# Altium footprint library Microcontroller.PcbLib: 13 footprints
Each footprint in its own frame and in the unit in brackets; x right, y up, seen from the top. Pads: shape width x height; smd on the part's side, far side on the other; paste and mask are expansions set on the pad; w line width, h text height; cw(c..) or ccw(c..) is an arc to the next point about the centre after c.
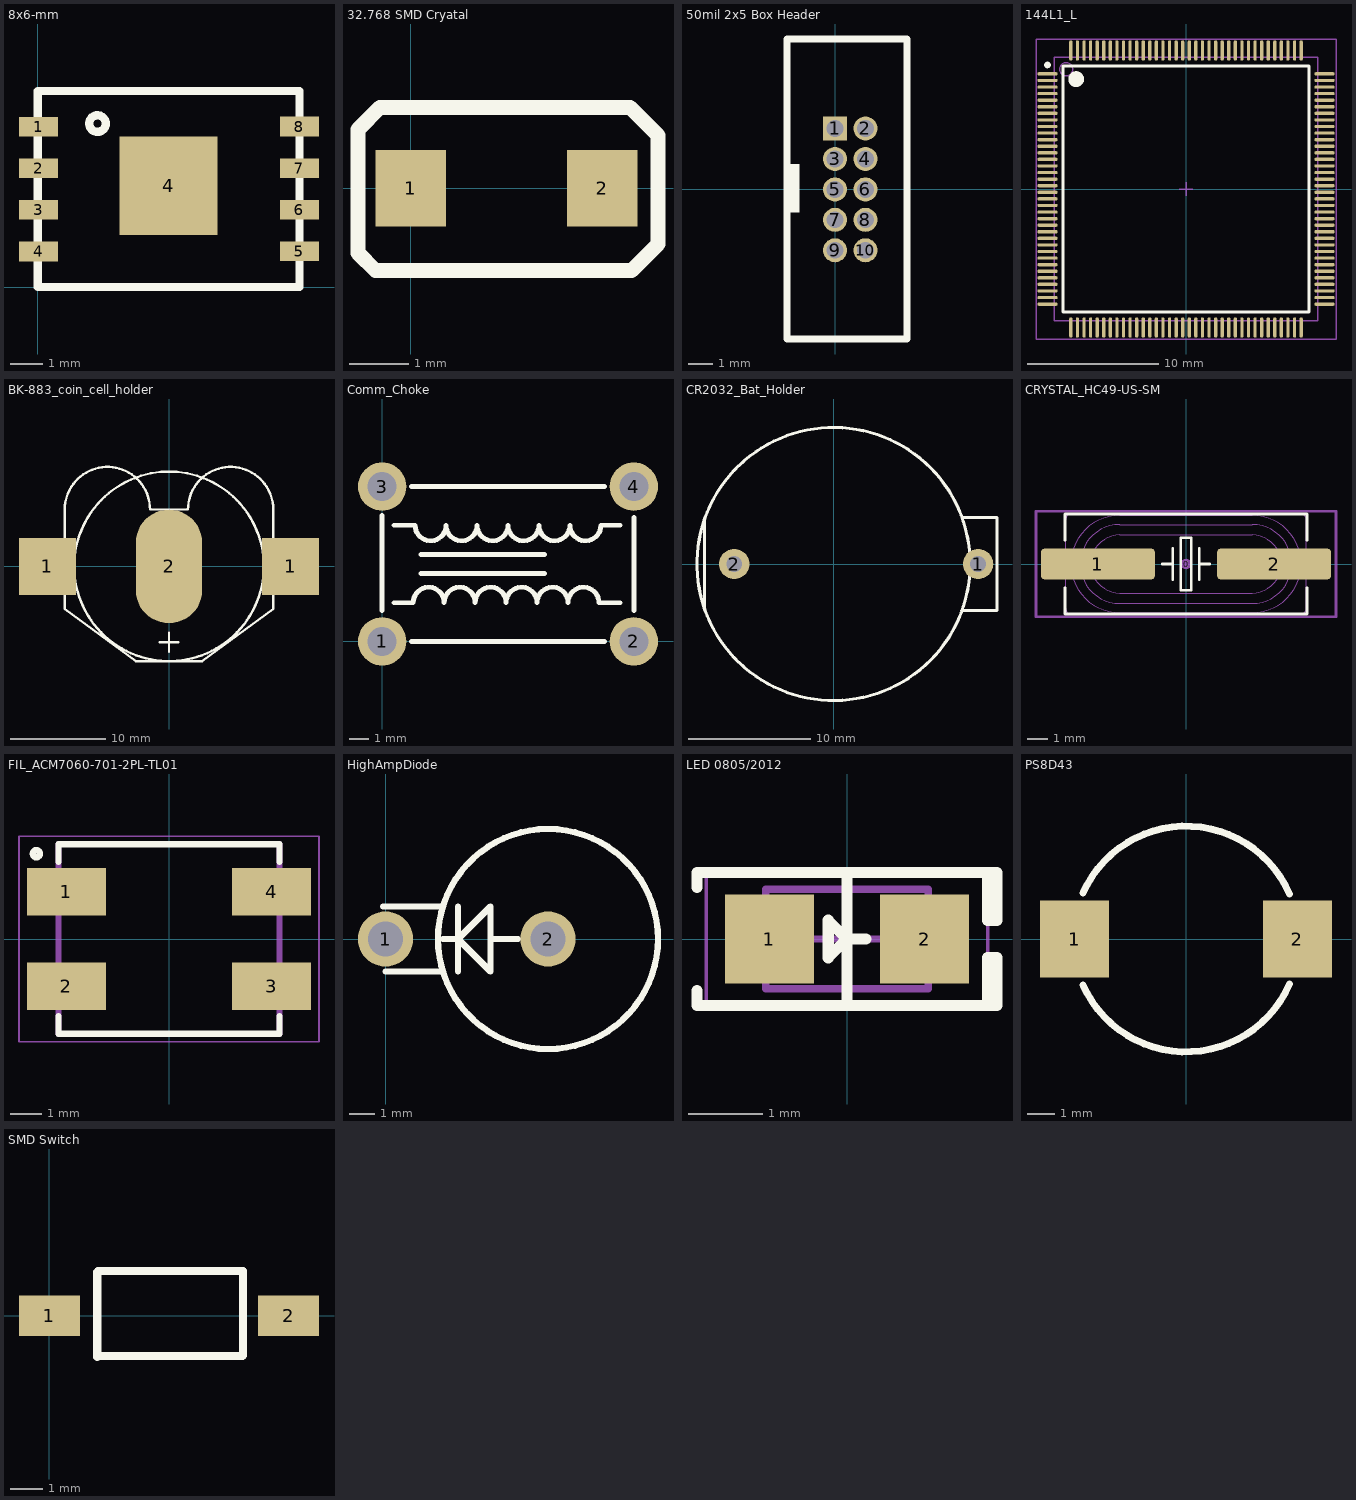
[diagram p0: the footprints below, top view; thin cyan lines are the x and y axes]

## 8x6-mm [mm]
pads (9):
  rect 1.2x0.6 smd: 1(0.025,4.9) 2(0.025,3.63) 3(0.025,2.36) 4(0.025,1.09) 5(8,1.1) 6(8,2.37) 7(8,3.64) 8(8,4.91)
  rect 3x3 smd: 4(4,3.1)
Top Overlay:
  circle w0.254: c1.825,5 r0.254
  lines w0.25: 0,3 0,4.9 ; 0,0 8,0 8,6 0,6 0,0
3D body: height 0.5, standoff 0, extent 0.2,0.2 7.8,5.8

## 32.768 SMD Cryatal [mm]
height 1.1
pads (2):
  rect 1.2x1.3 smd: 1(0,0) 2(3.25,0)
Top Overlay:
  lines w0.254: -0.9,-1.1 -0.6,-1.4 3.75,-1.4 4.2,-0.95 4.2,0.9 3.725,1.375 -0.525,1.375 -0.9,1 -0.9,-1.1
3D body: height 2, standoff 0, extent -0.5,-1.2 3.7,1.2

## 50mil 2x5 Box Header [mm]
pads (10):
  rect 1x1 hole 0.7: 1(0,2.525)
  round 1 hole 0.7: 2(1.27,2.525) 3(0,1.255) 4(1.27,1.255) 5(0,-0.015) 6(1.27,-0.015) 7(0,-1.285) 8(1.27,-1.285) 9(0,-2.555) 10(1.27,-2.555)
Top Overlay:
  region: -1.5,1.025 -2,1.025 -2,-0.975 -1.5,-0.975
  lines w0.3: -2,-6.25 -2,6.25 3,6.25 3,-6.25 -2,-6.25

## 144L1_L [mm] "144-Pin Thin Quad Flat Pack 0.5 mm Pitch, IPC High Density"
height 1.45
pads (144):
  oval 1.55x0.25 smd: 1(-10.525,8.75) 2(-10.525,8.25) 3(-10.525,7.75) 4(-10.525,7.25) 5(-10.525,6.75) 6(-10.525,6.25) 7(-10.525,5.75) 8(-10.525,5.25) 9(-10.525,4.75) 10(-10.525,4.25) 11(-10.525,3.75) 12(-10.525,3.25) 13(-10.525,2.75) 14(-10.525,2.25) 15(-10.525,1.75) 16(-10.525,1.25) 17(-10.525,0.75) 18(-10.525,0.25) 19(-10.525,-0.25) 20(-10.525,-0.75) 21(-10.525,-1.25) 22(-10.525,-1.75) 23(-10.525,-2.25) 24(-10.525,-2.75) 25(-10.525,-3.25) 26(-10.525,-3.75) 27(-10.525,-4.25) 28(-10.525,-4.75) 29(-10.525,-5.25) 30(-10.525,-5.75) 31(-10.525,-6.25) 32(-10.525,-6.75) 33(-10.525,-7.25) 34(-10.525,-7.75) 35(-10.525,-8.25) 36(-10.525,-8.75) 73(10.525,-8.75) 74(10.525,-8.25) 75(10.525,-7.75) 76(10.525,-7.25) 77(10.525,-6.75) 78(10.525,-6.25) 79(10.525,-5.75) 80(10.525,-5.25) 81(10.525,-4.75) 82(10.525,-4.25) 83(10.525,-3.75) 84(10.525,-3.25) 85(10.525,-2.75) 86(10.525,-2.25) 87(10.525,-1.75) 88(10.525,-1.25) 89(10.525,-0.75) 90(10.525,-0.25) 91(10.525,0.25) 92(10.525,0.75) 93(10.525,1.25) 94(10.525,1.75) 95(10.525,2.25) 96(10.525,2.75) 97(10.525,3.25) 98(10.525,3.75) 99(10.525,4.25) 100(10.525,4.75) 101(10.525,5.25) 102(10.525,5.75) 103(10.525,6.25) 104(10.525,6.75) 105(10.525,7.25) 106(10.525,7.75) 107(10.525,8.25) 108(10.525,8.75)
  oval 0.25x1.55 smd: 37(-8.75,-10.525) 38(-8.25,-10.525) 39(-7.75,-10.525) 40(-7.25,-10.525) 41(-6.75,-10.525) 42(-6.25,-10.525) 43(-5.75,-10.525) 44(-5.25,-10.525) 45(-4.75,-10.525) 46(-4.25,-10.525) 47(-3.75,-10.525) 48(-3.25,-10.525) 49(-2.75,-10.525) 50(-2.25,-10.525) 51(-1.75,-10.525) 52(-1.25,-10.525) 53(-0.75,-10.525) 54(-0.25,-10.525) 55(0.25,-10.525) 56(0.75,-10.525) 57(1.25,-10.525) 58(1.75,-10.525) 59(2.25,-10.525) 60(2.75,-10.525) 61(3.25,-10.525) 62(3.75,-10.525) 63(4.25,-10.525) 64(4.75,-10.525) 65(5.25,-10.525) 66(5.75,-10.525) 67(6.25,-10.525) 68(6.75,-10.525) 69(7.25,-10.525) 70(7.75,-10.525) 71(8.25,-10.525) 72(8.75,-10.525) 109(8.75,10.525) 110(8.25,10.525) 111(7.75,10.525) 112(7.25,10.525) 113(6.75,10.525) 114(6.25,10.525) 115(5.75,10.525) 116(5.25,10.525) 117(4.75,10.525) 118(4.25,10.525) 119(3.75,10.525) 120(3.25,10.525) 121(2.75,10.525) 122(2.25,10.525) 123(1.75,10.525) 124(1.25,10.525) 125(0.75,10.525) 126(0.25,10.525) 127(-0.25,10.525) 128(-0.75,10.525) 129(-1.25,10.525) 130(-1.75,10.525) 131(-2.25,10.525) 132(-2.75,10.525) 133(-3.25,10.525) 134(-3.75,10.525) 135(-4.25,10.525) 136(-4.75,10.525) 137(-5.25,10.525) 138(-5.75,10.525) 139(-6.25,10.525) 140(-6.75,10.525) 141(-7.25,10.525) 142(-7.75,10.525) 143(-8.25,10.525) 144(-8.75,10.525)
Top Overlay:
  circle w0.25: c-10.525,9.425 r0.125
  circle w0.6: c-8.35,8.35 r0.3
  lines w0.2: -9.35,-9.35 -9.35,9.35 9.35,9.35 9.35,-9.35 -9.35,-9.35
Mechanical 13:
  circle w0.1: c-9.1,9.1 r0.5
  lines w0.1: -10,-10 -10,10 10,10 10,-10 -10,-10
Mechanical 15:
  lines w0.1: -0.5,0 0.5,0 ; 0,-0.5 0,0.5 ; -11.4,-11.4 -11.4,11.4 11.4,11.4 11.4,-11.4 -11.4,-11.4
3D body "User Library-LQFP144-1.STEP": height 1.63, standoff 0.03, extent -10.998,-11.002 11.002,10.998

## BK-883_coin_cell_holder [mm]
pads (3):
  rect 6x6 smd: 1(-12.83,0) 1(12.83,0)
  oval 7x12 smd: 2(0,0)
Top Overlay:
  circle w0.254: c0,0 r10
  lines w0.254: -11,6 cw(c-6.5,6) -2,6 2,6 cw(c6.5,6) 11,6 ; -11,6.5 -11,-4.5 -3.5,-10 3.5,-10 11,-4.5 11,6.5 ; -1,-8 1,-8 ; 0,-9 0,-7
3D body: height 3, standoff 0, extent -9.8,-9.797 9.8,9.797
3D body: height 4, standoff 0, extent 2.1,1.802 10.7,10.4
3D body: height 4, standoff 0, extent -10.8,1.801 -2.2,10.399
3D body: height 0.5, standoff 0, extent 10.7,-2.8 15.5,2.8
3D body: height 0.5, standoff 0, extent -15.5,-2.8 -10.7,2.8
3D body: height 4, standoff 0, extent -10.8,-9.8 10.8,6.5

## Comm_Choke [mm]
pads (4):
  round 2.5 hole 1.5: 1(0,0) 2(13,0) 3(0,8) 4(13,8)
Top Overlay:
  lines w0.254: 0,1.6 0,6.5 ; 0.6,2 1.6,2 cw(c2.4,2) 3.2,2 cw(c4,2) 4.8,2 cw(c5.6,2) 6.4,2 cw(c7.2,2) 8,2 cw(c8.8,2) 9.6,2 cw(c10.4,2) 11.2,2 12.3,2 ; 0.6,6 1.7,6 ccw(c2.5,6) 3.3,6 ccw(c4.1,6) 4.9,6 ccw(c5.7,6) 6.5,6 ccw(c7.3,6) 8.1,6 ccw(c8.9,6) 9.7,6 ccw(c10.5,6) 11.3,6 12.3,6 ; 1.5,0 11.5,0 ; 1.5,8 11.5,8 ; 2,3.5 8.4,3.5 ; 2,4.5 8.4,4.5 ; 13,1.6 13,6.4
3D body: height 10, standoff 0, extent 0,0 13,8

## CR2032_Bat_Holder [mm]
pads (2):
  round 2.5 hole 1.3: 1(11.85,0) 2(-8.15,0)
Top Overlay:
  circle w0.254: c0,0 r11.2
  lines w0.254: -10.6,-3.7 -10.6,3.7 ; 10.5,-3.8 13.4,-3.8 13.4,3.8 10.6,3.8
3D body "User Library-CR2032_HOR_HOLD.STEP": height 8.5, standoff -4, extent -11,-11 13.5,11

## CRYSTAL_HC49-US-SM [mm] "SMD Crystal HC49/US-SM package"
height 4.3
pads (3):
  round 0.508 on Mech15: 0(0,0)
  rrect25% 5.5x1.5 smd: 1(-4.25,0) 2(4.25,0)
Top Overlay:
  lines w0.127: -5.842,-1.143 -5.842,-2.413 5.842,-2.413 5.842,-1.143 ; -5.842,1.143 -5.842,2.413 5.842,2.413 5.842,1.143 ; -1.143,0 -0.635,0 ; -0.635,-0.762 -0.635,0.762 ; 0.635,-0.762 0.635,0.762 ; 0.635,0 1.143,0 ; -0.254,-1.27 0.254,-1.27 0.254,1.27 -0.254,1.27 -0.254,-1.27
Mechanical 13:
  lines w0.05: -5.8,-0.45 -6.4,-0.45 -6.4,0.45 -5.8,0.45 ; 5.8,-0.45 6.4,-0.45 6.4,0.45 5.8,0.45 ; -5.8,-2.165 ccw(c-5.55,-2.165) -5.55,-2.415 5.55,-2.415 ccw(c5.55,-2.165) 5.8,-2.165 5.8,2.165 ccw(c5.55,2.165) 5.55,2.415 -5.55,2.415 ccw(c-5.55,2.165) -5.8,2.165 -5.8,-2.165 ; -3.2,-2.35 cw(c-3.2,0) -3.2,2.35 3.2,2.35 cw(c3.2,0) 3.2,-2.35 -3.2,-2.35 ; -3.2,-1.9 cw(c-3.2,0) -3.2,1.9 3.2,1.9 cw(c3.2,0) 3.2,-1.9 -3.2,-1.9 ; -3.2,-1.4 cw(c-3.2,0) -3.2,1.4 3.2,1.4 cw(c3.2,0) 3.2,-1.4 -3.2,-1.4
Mechanical 15:
  lines w0.127: -7.239,-2.54 7.239,-2.54 7.239,2.54 -7.239,2.54 -7.239,-2.54
3D body "Crystal HC49_US-SM.STEP": height 4.29, standoff -0.01, extent -6.4,-2.415 6.4,2.415

## FIL_ACM7060-701-2PL-TL01 [mm]
height 4
pads (4):
  rect 2.5x1.5 smd: 1(-3.25,1.5) 2(-3.25,-1.5) 3(3.25,-1.5) 4(3.25,1.5)
Top Overlay:
  circle w0.2: c-4.2,2.7 r0.112
  lines w0.2: -3.5,-2.45 -3.5,-3 3.5,-3 3.5,-2.45 ; -3.5,2.45 -3.5,3 3.5,3 3.5,2.45
Mechanical 1:
  lines w0.05: -4.75,-3.25 4.75,-3.25 4.75,3.25 -4.75,3.25 -4.75,-3.25
  lines w0.2: -3.5,-3 -3.5,3 ; 3.5,-3 3.5,3
3D body "SMT Common mode Filter.step": height 3.5, standoff 0, extent -3.5,-3 3.5,3

## HighAmpDiode [mm]
pads (2):
  round 2.2 hole 1.4: 1(0,0) 2(6.5,0)
Top Overlay:
  circle w0.254: c6.5,0 r4.4
  lines w0.254: -0.1,1.3 2.3,1.3 ; 0,-1.3 2.2,-1.3 ; 2.3,0 2.9,0 ; 2.9,-1.3 2.9,1.3 ; 4.2,0 5.3,0 ; 2.9,0 4.2,-1.3 4.2,1.3 2.9,0
3D body: height 10, standoff 2, extent 2.2,-4.299 10.8,4.299
3D body: height 10, standoff 0, extent -0.7,-0.7 0.7,0.7

## LED 0805/2012 [mm] "Chip Diode, 2-Leads, Body 2.00x1.25mm, IPC Medium Density"
height 0.7
pads (2):
  rect 1.2x1.2 smd: 1(-1.05,0) 2(1.05,0)
Top Overlay:
  lines w0.15: -2.032,-0.7 -2.032,-0.9 1.905,-0.9 ; -2.032,0.7 -2.032,0.9 1.905,0.9 ; 0,-0.9 0,0.9 ; 0.254,0 0,0 ; 0,0 -0.254,-0.254 -0.254,0.254 0,0 ; 1.905,-0.9 1.905,-0.254 2.032,-0.254 2.032,-0.9 1.905,-0.9 ; 1.905,0.9 1.905,0.254 2.032,0.254 2.032,0.9 1.905,0.9
Mechanical 13:
  lines w0.1: -1.1,-0.675 1.1,-0.675 1.1,0.675 -1.1,0.675 -1.1,-0.675
Mechanical 15:
  lines w0.05: -1.905,-0.95 1.905,-0.95 1.905,0.95 -1.905,0.95 -1.905,-0.95
  lines w0.1: -0.5,0 0.5,0 ; 0,-0.5 0,0.5
3D body "LED 0805 Base WHITE.STEP": height 0.4, standoff 0, extent -1,-0.625 1,0.625
3D body "LED 0805 Lens WHITE.STEP": height 0.9, standoff 0.3, extent -0.65,-0.625 0.65,0.625

## PS8D43 [mm]
pads (2):
  rect 2.5x2.8 smd: 1(-4.05,0) 2(4.05,0)
Top Overlay:
  lines w0.254: -3.743,-1.674 ccw(c0,0) 3.763,-1.627 ; -3.743,1.674 cw(c0,0) 3.763,1.627
3D body: height 5, standoff 0, extent -4,-3.999 4,3.999

## SMD Switch [mil]
pads (2):
  rect 75x50 smd: 1(0,0) 2(295,0)
Top Overlay:
  lines w10: 59,54 59,-51 60,-50 238,-50 239,-49 239,55 60,55
3D body: height 7.87, standoff 0, extent -19.68,-23.62 62.99,23.62
3D body: height 7.87, standoff 0, extent 236.22,-23.62 314.96,23.62
3D body: height 118.11, standoff 78.74, extent 98.43,-19.68 196.85,19.68
3D body: height 78.74, standoff 0, extent 59.06,-51.18 240.16,55.12